# Altium schematic symbol library M24C02-WMN6TP.SchLib: 2 symbols
Pins are listed as number, name and electrical type; pins without a type are passive.

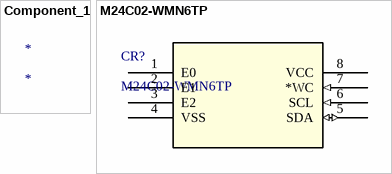
[diagram p0: symbols Component_1 to M24C02-WMN6TP]

## Component_1
designator *

## M24C02-WMN6TP
designator CR?
No Description Available; SourceLibrary: Update_to_database_2020-12-04; Built_By: EMA_UL_Team; Vendor: STMicroelectronics; Type: DEV; Manufacturer_Part_Number: M24C02-WMN6TP; Copyright: Copyright (C) 2018 Accelerated Designs. All rights reserved; RefDes: RefDes
footprint SO-8_STM
pins: 1 E0, 2 E1, 3 E2, 4 VSS (power), 5 SDA (io), 6 SCL (in), 7 *WC (in), 8 VCC (power)